# Altium integrated library NSC Comm Phase Locked Loop.IntLib: 8 symbols
Pins are listed as number, name and electrical type; pins without a type are passive.

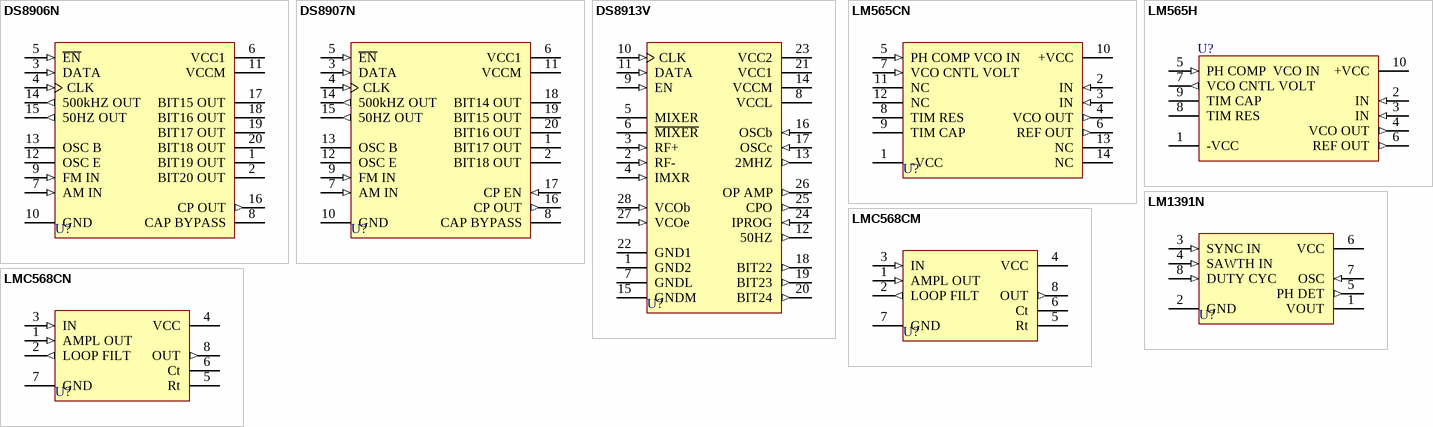
[diagram p0: symbols DS8906N to LMC568CN]

## DS8906N
designator U?
Digital Phase-Locked Loop Synthesizer; Published: 15-Apr-2002; LatestRevisionDate: 06-Jun-2005; LatestRevisionNote: Stylized 3D Model Added.; DatasheetVersion: Jul-1986; PackageVersion: 2000; PackageReference: N20A; Publisher: Altium Limited; PackageDescription: DIP; 20 Leads; Row Spacing 7.62 mm; Pitch 2.54 mm; Code_JEDEC: MS-001-AD; ComponentLink1Description: Manufacturer Link; ComponentLink1URL: http://www.national.com/
footprint N20A (DIP; 20 Leads; Row Spacing 7.62 mm; Pitch 2.54 mm)
3D model N20A (DIP; 20 Leads; Row Spacing 7.62 mm; Pitch 2.54 mm)
pins: 1 BIT19 OUT (oc), 2 BIT20 OUT (oc), 3 DATA (in), 4 CLK (in), 5 ~{EN} (in), 6 VCC1 (power), 7 AM IN (in), 8 CAP BYPASS, 9 FM IN (in), 10 GND (power), 11 VCCM (power), 12 OSC E, 13 OSC B, 14 500kHZ OUT (out), 15 50HZ OUT (out), 16 CP OUT (out), 17 BIT15 OUT (oc), 18 BIT16 OUT (oc), 19 BIT17 OUT (oc), 20 BIT18 OUT (oc)

## DS8907N
designator U?
Digital Phase-Locked Loop Frequency Synthesizer; ComponentAvailability: Obsolete; Published: 15-Apr-2002; LatestRevisionDate: 06-Jun-2005; LatestRevisionNote: Stylized 3D Model Added.; DatasheetVersion: Jul-1986; PackageVersion: 2000; PackageReference: N20A; Publisher: Altium Limited; PackageDescription: DIP; 20 Leads; Row Spacing 7.62 mm; Pitch 2.54 mm; Code_JEDEC: MS-001-AD; ComponentLink1Description: Manufacturer Link; ComponentLink1URL: http://www.national.com/; ComponentLink2Description: Datasheet; ComponentLink2URL: http://www.national.com/ds.cgi/DS/DS8907.pdf; ComponentLink3Description: URL Link1; ComponentLink3URL: http://www.national.com/pf/DS/DS8907.html
footprint N20A (DIP; 20 Leads; Row Spacing 7.62 mm; Pitch 2.54 mm)
3D model N20A (DIP; 20 Leads; Row Spacing 7.62 mm; Pitch 2.54 mm)
pins: 1 BIT17 OUT (oc), 2 BIT18 OUT (oc), 3 DATA (in), 4 CLK (in), 5 ~{EN} (in), 6 VCC1 (power), 7 AM IN (in), 8 CAP BYPASS, 9 FM IN (in), 10 GND (power), 11 VCCM (power), 12 OSC E, 13 OSC B, 14 500kHZ OUT (out), 15 50HZ OUT (out), 16 CP OUT (out), 17 CP EN (in), 18 BIT14 OUT (oc), 19 BIT15 OUT (oc), 20 BIT16 OUT (oc)

## DS8913V
designator U?
AM/FM/TV Sound Up-Conversion Frequency Synthesizer; ComponentAvailability: Obsolete; Published: 15-Apr-2002; LatestRevisionDate: 13-Apr-2006; LatestRevisionNote: IPC-7351 Footprint Added.; DatasheetVersion: Apr-1990; PackageVersion: 2000; PackageReference: V28A; Publisher: Altium Limited; PackageDescription: 28-Pin Leaded Chip Carrier 1.27 mm Pitch; Code_IPC: PLCC-28; ComponentLink1Description: Manufacturer Link; ComponentLink1URL: http://www.national.com/; ComponentLink2Description: Datasheet; ComponentLink2URL: http://www.national.com/ds.cgi/DS/DS8911.pdf; ComponentLink3Description: Discontinuation Notice; ComponentLink3URL: http://www.national.com/obs/obsolescence.txt; ComponentLink4Description: URL Link1; ComponentLink4URL: http://www.national.com/pf/DS/DS8913.html
footprint V28A_N (Leaded Chip Carrier, 28-Leads, Body 11.5x11.5mm, Pitch 1.27mm, IPC Medium Density)
footprint V28A_L (Leaded Chip Carrier, 28-Leads, Body 11.5x11.5mm, Pitch 1.27mm, IPC High Density)
footprint V28A_M (Leaded Chip Carrier, 28-Leads, Body 11.5x11.5mm, Pitch 1.27mm, IPC Low Density)
3D model DS8913-V28A (28-Pin Leaded Chip Carrier 1.27 mm Pitch)
pins: 1 GND2 (power), 2 RF- (in), 3 RF+ (in), 4 IMXR (in), 5 MIXER (oc), 6 ~{MIXER} (oc), 7 GNDL (power), 8 VCCL (power), 9 EN (in), 10 CLK (in), 11 DATA (in), 12 50HZ (out), 13 2MHZ (out), 14 VCCM (power), 15 GNDM (power), 16 OSCb (in), 17 OSCc (in), 18 BIT22 (out), 19 BIT23 (out), 20 BIT24 (out), 21 VCC1 (power), 22 GND1 (power), 23 VCC2 (power), 24 IPROG (in), 25 CPO (out), 26 OP AMP (out), 27 VCOe (in), 28 VCOb (in)

## LM565CN
designator U?
Phase-Locked Loop; Published: 15-Apr-2002; LatestRevisionDate: 06-Jun-2005; LatestRevisionNote: Stylized 3D Model Added.; DatasheetVersion: May-1999; PackageVersion: 2000; PackageReference: N14A; Publisher: Altium Limited; PackageDescription: DIP; 14 Leads; Row Spacing 7.62 mm; Pitch 2.54 mm; ComponentLink1Description: Manufacturer Link; ComponentLink1URL: http://www.national.com/; ComponentLink2Description: Datasheet; ComponentLink2URL: http://www.national.com/ds.cgi/LM/LM565.pdf; ComponentLink3Description: URL Link1; ComponentLink3URL: http://www.national.com/pf/LM/LM565C.html
footprint N14A (DIP; 14 Leads; Row Spacing 7.62 mm; Pitch 2.54 mm)
3D model N14A (DIP; 14 Leads; Row Spacing 7.62 mm; Pitch 2.54 mm)
pins: 1 -VCC (power), 2 IN (in), 3 IN (in), 4 VCO OUT (out), 5 PH COMP VCO IN (in), 6 REF OUT (out), 7 VCO CNTL VOLT (in), 8 TIM RES, 9 TIM CAP, 10 +VCC (power), 11 NC, 12 NC, 13 NC, 14 NC

## LM565H
designator U?
Phase-Locked Loop; ComponentAvailability: Obsolete; Published: 15-Apr-2002; DatasheetVersion: May-1999; PackageVersion: 2000; PackageReference: H10C; Publisher: Altium Limited; PackageDescription: Can; 10 Leads; Pin Circle Dia. 5.84 mm; Lead Dia. 0.48 mm (max); ComponentLink1Description: Manufacturer Link; ComponentLink1URL: http://www.national.com/; ComponentLink2Description: Datasheet; ComponentLink2URL: http://www.national.com/ds.cgi/LM/LM565.pdf; ComponentLink3Description: Discontinuation Notice; ComponentLink3URL: http://www.national.com/obs/obsolescence.txt; ComponentLink4Description: URL Link1; ComponentLink4URL: http://www.national.com/pf/LM/LM565.html
footprint H10C (Can; 10 Leads; Pin Circle Dia. 5.84 mm; Lead Dia. 0.48 mm (max))
pins: 1 -VCC (power), 2 IN (in), 3 IN (in), 4 VCO OUT (out), 5 PH COMP  VCO IN (in), 6 REF OUT (out), 7 VCO CNTL VOLT (out), 8 TIM RES, 9 TIM CAP, 10 +VCC (power)

## LM1391N
designator U?
Phase-Locked Loop; ComponentAvailability: Obsolete; Published: 15-Apr-2002; LatestRevisionDate: 06-Jun-2005; LatestRevisionNote: Stylized 3D Model Added.; DatasheetVersion: Feb-1995; PackageVersion: Sep-1997; PackageReference: N08E; Publisher: Altium Limited; PackageDescription: DIP; 8 Leads; Row Spacing 7.62 mm; Pitch 2.54 mm; ComponentLink1Description: Manufacturer Link; ComponentLink1URL: http://www.national.com/; ComponentLink2Description: Datasheet; ComponentLink2URL: http://www.national.com/ds.cgi/LM/LM1391.pdf; ComponentLink3Description: Discontinuation Notice; ComponentLink3URL: http://www.national.com/obs/obsolescence.txt; ComponentLink4Description: URL Link1; ComponentLink4URL: http://www.national.com/pf/LM/LM1391.html
footprint N08E (DIP; 8 Leads; Row Spacing 7.62 mm; Pitch 2.54 mm)
3D model N08E (DIP; 8 Leads; Row Spacing 7.62 mm; Pitch 2.54 mm)
pins: 1 VOUT, 2 GND (power), 3 SYNC IN (in), 4 SAWTH IN (in), 5 PH DET (out), 6 VCC (power), 7 OSC (in), 8 DUTY CYC (in)

## LMC568CM
designator U?
Low-Power Phase-Locked Loop; Published: 15-Apr-2002; LatestRevisionDate: 13-Apr-2006; LatestRevisionNote: IPC-7351 Footprint Added.; DatasheetVersion: May-1999; PackageVersion: Sep-1997; PackageReference: M08A; Publisher: Altium Limited; PackageDescription: 8-Pin Small Outline Integrated Circuit 1.27 mm Pitch; Code_JEDEC: MS-012-AA; Code_IPC: SOIC127P600-8; ComponentLink1Description: Manufacturer Link; ComponentLink1URL: http://www.national.com/; ComponentLink2Description: Datasheet; ComponentLink2URL: http://www.national.com/ds.cgi/LM/LMC568.pdf; ComponentLink3Description: URL Link1; ComponentLink3URL: http://www.national.com/pf/LM/LMC568.html
footprint M08A_N (SOIC, 8-Leads, Body 4.9x3.9mm, Pitch 1.27mm, IPC Medium Density)
footprint M08A_L (SOIC, 8-Leads, Body 4.9x3.9mm, Pitch 1.27mm, IPC High Density)
footprint M08A_M (SOIC, 8-Leads, Body 4.9x3.9mm, Pitch 1.27mm, IPC Low Density)
3D model M08A (8-Pin Small Outline Integrated Circuit 1.27 mm Pitch)
pins: 1 AMPL OUT (in), 2 LOOP FILT (out), 3 IN (in), 4 VCC (power), 5 Rt, 6 Ct, 7 GND (power), 8 OUT (out)

## LMC568CN
designator U?
Low-Power Phase-Locked Loop; ComponentAvailability: Obsolete; Published: 15-Apr-2002; LatestRevisionDate: 06-Jun-2005; LatestRevisionNote: Stylized 3D Model Added.; DatasheetVersion: May-1999; PackageVersion: Sep-1997; PackageReference: N08E; Publisher: Altium Limited; PackageDescription: DIP; 8 Leads; Row Spacing 7.62 mm; Pitch 2.54 mm; ComponentLink1Description: Manufacturer Link; ComponentLink1URL: http://www.national.com/; ComponentLink2Description: Datasheet; ComponentLink2URL: http://www.national.com/ds.cgi/LM/LMC568.pdf; ComponentLink3Description: Discontinuation Notice; ComponentLink3URL: http://www.national.com/obs/obsolescence.txt; ComponentLink4Description: URL Link1; ComponentLink4URL: http://www.national.com/pf/LM/LMC568.html
footprint N08E (DIP; 8 Leads; Row Spacing 7.62 mm; Pitch 2.54 mm)
3D model N08E (DIP; 8 Leads; Row Spacing 7.62 mm; Pitch 2.54 mm)
pins: 1 AMPL OUT (in), 2 LOOP FILT (out), 3 IN (in), 4 VCC (power), 5 Rt, 6 Ct, 7 GND (power), 8 OUT (out)